# EAGLE library part PIC18F8722-X/PT (library PIC18F87K22)
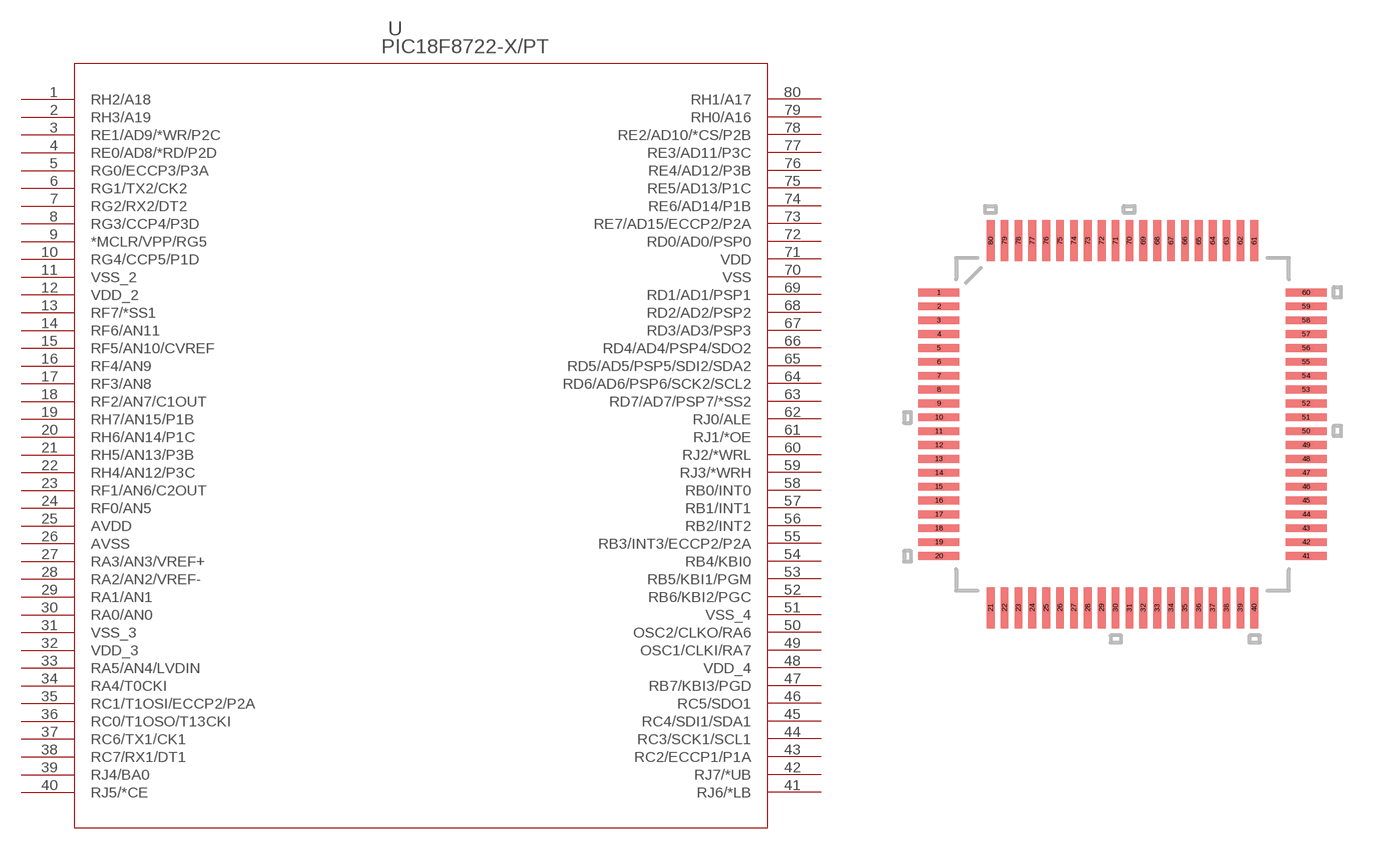
[diagram p0: symbol with the pads of TQFP80_12X12MC; footprint TQFP80_12X12MC]

Designator prefix -

## PIC18F8722-X/PT  [TQFP80_12X12MC]
1  RH2/A18  pas
2  RH3/A19  pas
3  RE1/AD9/*WR/P2C  pas
4  RE0/AD8/*RD/P2D  pas
5  RG0/ECCP3/P3A  pas
6  RG1/TX2/CK2  pas
7  RG2/RX2/DT2  pas
8  RG3/CCP4/P3D  pas
9  *MCLR/VPP/RG5  pas
10  RG4/CCP5/P1D  pas
11  VSS_2  pas
12  VDD_2  pas
13  RF7/*SS1  pas
14  RF6/AN11  pas
15  RF5/AN10/CVREF  pas
16  RF4/AN9  pas
17  RF3/AN8  pas
18  RF2/AN7/C1OUT  pas
19  RH7/AN15/P1B  pas
20  RH6/AN14/P1C  pas
21  RH5/AN13/P3B  pas
22  RH4/AN12/P3C  pas
23  RF1/AN6/C2OUT  pas
24  RF0/AN5  pas
25  AVDD  pas
26  AVSS  pas
27  RA3/AN3/VREF+  pas
28  RA2/AN2/VREF-  pas
29  RA1/AN1  pas
30  RA0/AN0  pas
31  VSS_3  pas
32  VDD_3  pas
33  RA5/AN4/LVDIN  pas
34  RA4/T0CKI  pas
35  RC1/T1OSI/ECCP2/P2A  pas
36  RC0/T1OSO/T13CKI  pas
37  RC6/TX1/CK1  pas
38  RC7/RX1/DT1  pas
39  RJ4/BA0  pas
40  RJ5/*CE  pas
41  RJ6/*LB  pas
42  RJ7/*UB  pas
43  RC2/ECCP1/P1A  pas
44  RC3/SCK1/SCL1  pas
45  RC4/SDI1/SDA1  pas
46  RC5/SDO1  pas
47  RB7/KBI3/PGD  pas
48  VDD_4  pas
49  OSC1/CLKI/RA7  pas
50  OSC2/CLKO/RA6  pas
51  VSS_4  pas
52  RB6/KBI2/PGC  pas
53  RB5/KBI1/PGM  pas
54  RB4/KBI0  pas
55  RB3/INT3/ECCP2/P2A  pas
56  RB2/INT2  pas
57  RB1/INT1  pas
58  RB0/INT0  pas
59  RJ3/*WRH  pas
60  RJ2/*WRL  pas
61  RJ1/*OE  pas
62  RJ0/ALE  pas
63  RD7/AD7/PSP7/*SS2  pas
64  RD6/AD6/PSP6/SCK2/SCL2  pas
65  RD5/AD5/PSP5/SDI2/SDA2  pas
66  RD4/AD4/PSP4/SDO2  pas
67  RD3/AD3/PSP3  pas
68  RD2/AD2/PSP2  pas
69  RD1/AD1/PSP1  pas
70  VSS  pas
71  VDD  pas
72  RD0/AD0/PSP0  pas
73  RE7/AD15/ECCP2/P2A  pas
74  RE6/AD14/P1B  pas
75  RE5/AD13/P1C  pas
76  RE4/AD12/P3B  pas
77  RE3/AD11/P3C  pas
78  RE2/AD10/*CS/P2B  pas
79  RH0/A16  pas
80  RH1/A17  pas

## Footprint TQFP80_12X12MC (pad centres in mm)
smd 1.473 x 0.279: 1 -6.619,4.75; 2 -6.619,4.25; 3 -6.619,3.75; 4 -6.619,3.25; 5 -6.619,2.75; 6 -6.619,2.25; 7 -6.619,1.75; 8 -6.619,1.25; 9 -6.619,0.75; 10 -6.619,0.25; 11 -6.619,-0.25; 12 -6.619,-0.75; 13 -6.619,-1.25; 14 -6.619,-1.75; 15 -6.619,-2.25; 16 -6.619,-2.75; 17 -6.619,-3.25; 18 -6.619,-3.75; 19 -6.619,-4.25; 20 -6.619,-4.75; 41 6.619,-4.75; 42 6.619,-4.25; 43 6.619,-3.75; 44 6.619,-3.25; 45 6.619,-2.75; 46 6.619,-2.25; 47 6.619,-1.75; 48 6.619,-1.25; 49 6.619,-0.75; 50 6.619,-0.25; 51 6.619,0.25; 52 6.619,0.75; 53 6.619,1.25; 54 6.619,1.75; 55 6.619,2.25; 56 6.619,2.75; 57 6.619,3.25; 58 6.619,3.75; 59 6.619,4.25; 60 6.619,4.75
smd 0.279 x 1.473: 21 -4.75,-6.619; 22 -4.25,-6.619; 23 -3.75,-6.619; 24 -3.25,-6.619; 25 -2.75,-6.619; 26 -2.25,-6.619; 27 -1.75,-6.619; 28 -1.25,-6.619; 29 -0.75,-6.619; 30 -0.25,-6.619; 31 0.25,-6.619; 32 0.75,-6.619; 33 1.25,-6.619; 34 1.75,-6.619; 35 2.25,-6.619; 36 2.75,-6.619; 37 3.25,-6.619; 38 3.75,-6.619; 39 4.25,-6.619; 40 4.75,-6.619; 61 4.75,6.619; 62 4.25,6.619; 63 3.75,6.619; 64 3.25,6.619; 65 2.75,6.619; 66 2.25,6.619; 67 1.75,6.619; 68 1.25,6.619; 69 0.75,6.619; 70 0.25,6.619; 71 -0.25,6.619; 72 -0.75,6.619; 73 -1.25,6.619; 74 -1.75,6.619; 75 -2.25,6.619; 76 -2.75,6.619; 77 -3.25,6.619; 78 -3.75,6.619; 79 -4.25,6.619; 80 -4.75,6.619